# EAGLE library part SEAM-40-03.0-S-06-2-A-K-TR (library scono)
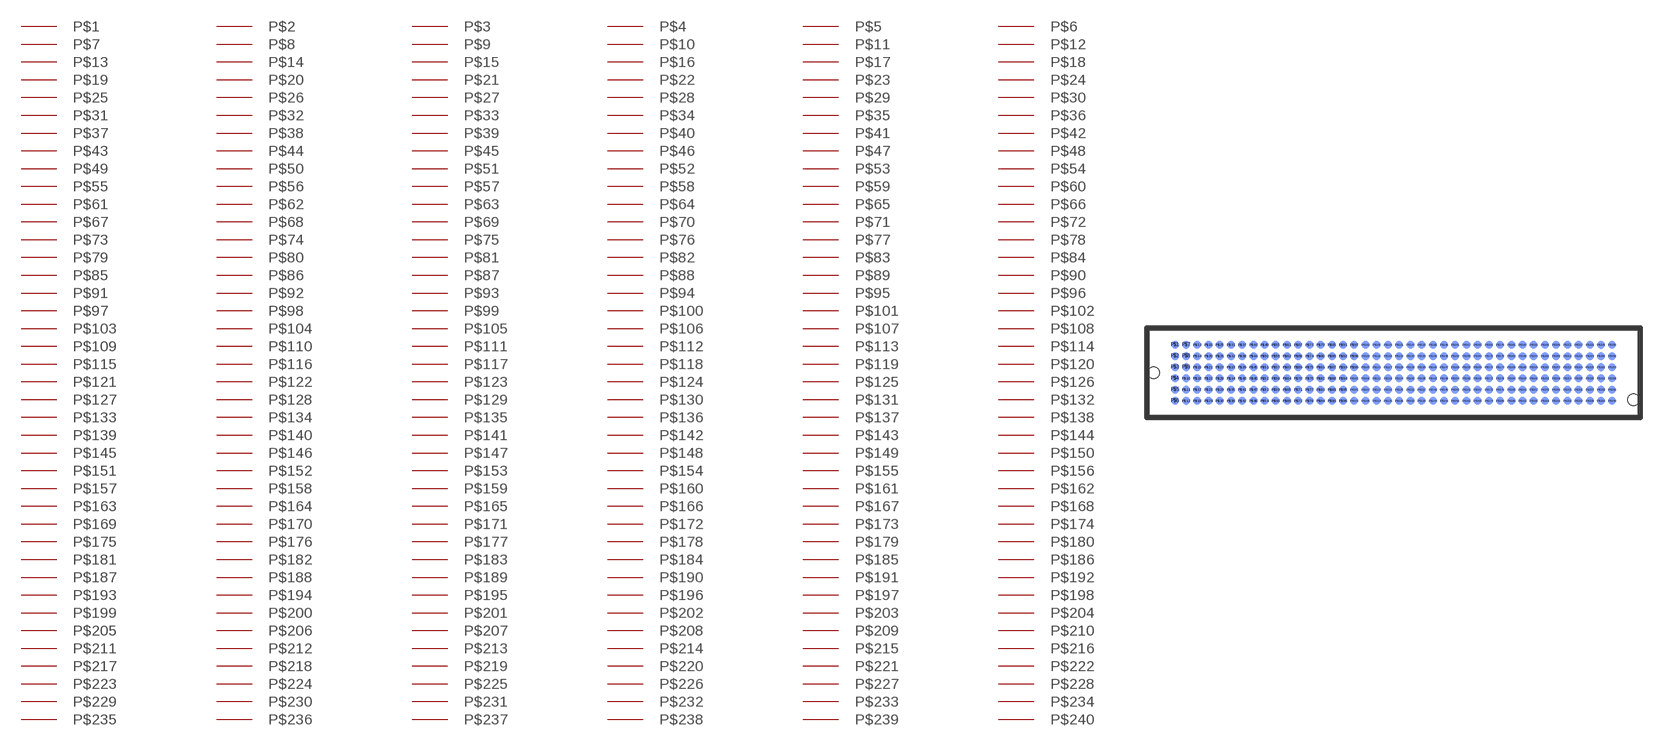
[diagram p1: symbol with the pads of SEAM-40-03.0-S-06-2-A-K-TR; footprint SEAM-40-03.0-S-06-2-A-K-TR]

Designator prefix -

## SEAM-40-03.0-S-06-2-A-K-TR  [SEAM-40-03.0-S-06-2-A-K-TR]
P$1  P$1
P$2  P$2
P$3  P$3
P$4  P$4
P$5  P$5
P$6  P$6
P$7  P$7
P$8  P$8
P$9  P$9
P$10  P$10
P$11  P$11
P$12  P$12
P$13  P$13
P$14  P$14
P$15  P$15
P$16  P$16
P$17  P$17
P$18  P$18
P$19  P$19
P$20  P$20
P$21  P$21
P$22  P$22
P$23  P$23
P$24  P$24
P$25  P$25
P$26  P$26
P$27  P$27
P$28  P$28
P$29  P$29
P$30  P$30
P$31  P$31
P$32  P$32
P$33  P$33
P$34  P$34
P$35  P$35
P$36  P$36
P$37  P$37
P$38  P$38
P$39  P$39
P$40  P$40
P$41  P$41
P$42  P$42
P$43  P$43
P$44  P$44
P$45  P$45
P$46  P$46
P$47  P$47
P$48  P$48
P$49  P$49
P$50  P$50
P$51  P$51
P$52  P$52
P$53  P$53
P$54  P$54
P$55  P$55
P$56  P$56
P$57  P$57
P$58  P$58
P$59  P$59
P$60  P$60
P$61  P$61
P$62  P$62
P$63  P$63
P$64  P$64
P$65  P$65
P$66  P$66
P$67  P$67
P$68  P$68
P$69  P$69
P$70  P$70
P$71  P$71
P$72  P$72
P$73  P$73
P$74  P$74
P$75  P$75
P$76  P$76
P$77  P$77
P$78  P$78
P$79  P$79
P$80  P$80
P$81  P$81
P$82  P$82
P$83  P$83
P$84  P$84
P$85  P$85
P$86  P$86
P$87  P$87
P$88  P$88
P$89  P$89
P$90  P$90
P$91  P$91
P$92  P$92
P$93  P$93
P$94  P$94
P$95  P$95
P$96  P$96
P$97  P$97
P$98  P$98
P$99  P$99
P$100  P$100
P$101  P$101
P$102  P$102
P$103  P$103
P$104  P$104
P$105  P$105
P$106  P$106
P$107  P$107
P$108  P$108
P$109  P$109
P$110  P$110
P$111  P$111
P$112  P$112
P$113  P$113
P$114  P$114
P$115  P$115
P$116  P$116
P$117  P$117
P$118  P$118
P$119  P$119
P$120  P$120
P$121  P$121
P$122  P$122
P$123  P$123
P$124  P$124
P$125  P$125
P$126  P$126
P$127  P$127
P$128  P$128
P$129  P$129
P$130  P$130
P$131  P$131
P$132  P$132
P$133  P$133
P$134  P$134
P$135  P$135
P$136  P$136
P$137  P$137
P$138  P$138
P$139  P$139
P$140  P$140
P$141  P$141
P$142  P$142
P$143  P$143
P$144  P$144
P$145  P$145
P$146  P$146
P$147  P$147
P$148  P$148
P$149  P$149
P$150  P$150
P$151  P$151
P$152  P$152
P$153  P$153
P$154  P$154
P$155  P$155
P$156  P$156
P$157  P$157
P$158  P$158
P$159  P$159
P$160  P$160
P$161  P$161
P$162  P$162
P$163  P$163
P$164  P$164
P$165  P$165
P$166  P$166
P$167  P$167
P$168  P$168
P$169  P$169
P$170  P$170
P$171  P$171
P$172  P$172
P$173  P$173
P$174  P$174
P$175  P$175
P$176  P$176
P$177  P$177
P$178  P$178
P$179  P$179
P$180  P$180
P$181  P$181
P$182  P$182
P$183  P$183
P$184  P$184
P$185  P$185
P$186  P$186
P$187  P$187
P$188  P$188
P$189  P$189
P$190  P$190
P$191  P$191
P$192  P$192
P$193  P$193
P$194  P$194
P$195  P$195
P$196  P$196
P$197  P$197
P$198  P$198
P$199  P$199
P$200  P$200
P$201  P$201
P$202  P$202
P$203  P$203
P$204  P$204
P$205  P$205
P$206  P$206
P$207  P$207
P$208  P$208
P$209  P$209
P$210  P$210
P$211  P$211
P$212  P$212
P$213  P$213
P$214  P$214
P$215  P$215
P$216  P$216
P$217  P$217
P$218  P$218
P$219  P$219
P$220  P$220
P$221  P$221
P$222  P$222
P$223  P$223
P$224  P$224
P$225  P$225
P$226  P$226
P$227  P$227
P$228  P$228
P$229  P$229
P$230  P$230
P$231  P$231
P$232  P$232
P$233  P$233
P$234  P$234
P$235  P$235
P$236  P$236
P$237  P$237
P$238  P$238
P$239  P$239
P$240  P$240

## Footprint SEAM-40-03.0-S-06-2-A-K-TR (pad centres in mm)
smd 0.889 x 0.889 bottom: P$1 -24.765,3.175; P$2 -24.765,1.905; P$3 -24.765,0.635; P$4 -24.765,-0.635; P$5 -24.765,-1.905; P$6 -24.765,-3.175; P$7 -23.495,3.175; P$8 -23.495,1.905; P$9 -23.495,0.635; P$10 -23.495,-0.635; P$11 -23.495,-1.905; P$12 -23.495,-3.175; P$13 -22.225,3.175; P$14 -22.225,1.905; P$15 -22.225,0.635; P$16 -22.225,-0.635; P$17 -22.225,-1.905; P$18 -22.225,-3.175; P$19 -20.955,3.175; P$20 -20.955,1.905; P$21 -20.955,0.635; P$22 -20.955,-0.635; P$23 -20.955,-1.905; P$24 -20.955,-3.175; P$25 -19.685,3.175; P$26 -19.685,1.905; P$27 -19.685,0.635; P$28 -19.685,-0.635; P$29 -19.685,-1.905; P$30 -19.685,-3.175; P$31 -18.415,3.175; P$32 -18.415,1.905; P$33 -18.415,0.635; P$34 -18.415,-0.635; P$35 -18.415,-1.905; P$36 -18.415,-3.175; P$37 -17.145,3.175; P$38 -17.145,1.905; P$39 -17.145,0.635; P$40 -17.145,-0.635; P$41 -17.145,-1.905; P$42 -17.145,-3.175; P$43 -15.875,3.175; P$44 -15.875,1.905; P$45 -15.875,0.635; P$46 -15.875,-0.635; P$47 -15.875,-1.905; P$48 -15.875,-3.175; P$49 -14.605,3.175; P$50 -14.605,1.905; P$51 -14.605,0.635; P$52 -14.605,-0.635; P$53 -14.605,-1.905; P$54 -14.605,-3.175; P$55 -13.335,3.175; P$56 -13.335,1.905; P$57 -13.335,0.635; P$58 -13.335,-0.635; P$59 -13.335,-1.905; P$60 -13.335,-3.175; P$61 -12.065,3.175; P$62 -12.065,1.905; P$63 -12.065,0.635; P$64 -12.065,-0.635; P$65 -12.065,-1.905; P$66 -12.065,-3.175; P$67 -10.795,3.175; P$68 -10.795,1.905; P$69 -10.795,0.635; P$70 -10.795,-0.635; P$71 -10.795,-1.905; P$72 -10.795,-3.175; P$73 -9.525,3.175; P$74 -9.525,1.905; P$75 -9.525,0.635; P$76 -9.525,-0.635; P$77 -9.525,-1.905; P$78 -9.525,-3.175; P$79 -8.255,3.175; P$80 -8.255,1.905; P$81 -8.255,0.635; P$82 -8.255,-0.635; P$83 -8.255,-1.905; P$84 -8.255,-3.175; P$85 -6.985,3.175; P$86 -6.985,1.905; P$87 -6.985,0.635; P$88 -6.985,-0.635; P$89 -6.985,-1.905; P$90 -6.985,-3.175; P$91 -5.715,3.175; P$92 -5.715,1.905; P$93 -5.715,0.635; P$94 -5.715,-0.635; P$95 -5.715,-1.905; P$96 -5.715,-3.175; P$97 -4.445,3.175; P$98 -4.445,1.905; P$99 -4.445,0.635; P$100 -4.445,-0.635; P$101 -4.445,-1.905; P$102 -4.445,-3.175; P$103 -3.175,3.175; P$104 -3.175,1.905; P$105 -3.175,0.635; P$106 -3.175,-0.635; P$107 -3.175,-1.905; P$108 -3.175,-3.175; P$109 -1.905,3.175; P$110 -1.905,1.905; P$111 -1.905,0.635; P$112 -1.905,-0.635; P$113 -1.905,-1.905; P$114 -1.905,-3.175; P$115 -0.635,3.175; P$116 -0.635,1.905; P$117 -0.635,0.635; P$118 -0.635,-0.635; P$119 -0.635,-1.905; P$120 -0.635,-3.175; P$121 0.635,3.175; P$122 0.635,1.905; P$123 0.635,0.635; P$124 0.635,-0.635; P$125 0.635,-1.905; P$126 0.635,-3.175; P$127 1.905,3.175; P$128 1.905,1.905; P$129 1.905,0.635; P$130 1.905,-0.635; P$131 1.905,-1.905; P$132 1.905,-3.175; P$133 3.175,3.175; P$134 3.175,1.905; P$135 3.175,0.635; P$136 3.175,-0.635; P$137 3.175,-1.905; P$138 3.175,-3.175; P$139 4.445,3.175; P$140 4.445,1.905; P$141 4.445,0.635; P$142 4.445,-0.635; P$143 4.445,-1.905; P$144 4.445,-3.175; P$145 5.715,3.175; P$146 5.715,1.905; P$147 5.715,0.635; P$148 5.715,-0.635; P$149 5.715,-1.905; P$150 5.715,-3.175; P$151 6.985,3.175; P$152 6.985,1.905; P$153 6.985,0.635; P$154 6.985,-0.635; P$155 6.985,-1.905; P$156 6.985,-3.175; P$157 8.255,3.175; P$158 8.255,1.905; P$159 8.255,0.635; P$160 8.255,-0.635; P$161 8.255,-1.905; P$162 8.255,-3.175; P$163 9.525,3.175; P$164 9.525,1.905; P$165 9.525,0.635; P$166 9.525,-0.635; P$167 9.525,-1.905; P$168 9.525,-3.175; P$169 10.795,3.175; P$170 10.795,1.905; P$171 10.795,0.635; P$172 10.795,-0.635; P$173 10.795,-1.905; P$174 10.795,-3.175; P$175 12.065,3.175; P$176 12.065,1.905; P$177 12.065,0.635; P$178 12.065,-0.635; P$179 12.065,-1.905; P$180 12.065,-3.175; P$181 13.335,3.175; P$182 13.335,1.905; P$183 13.335,0.635; P$184 13.335,-0.635; P$185 13.335,-1.905; P$186 13.335,-3.175; P$187 14.605,3.175; P$188 14.605,1.905; P$189 14.605,0.635; P$190 14.605,-0.635; P$191 14.605,-1.905; P$192 14.605,-3.175; P$193 15.875,3.175; P$194 15.875,1.905; P$195 15.875,0.635; P$196 15.875,-0.635; P$197 15.875,-1.905; P$198 15.875,-3.175; P$199 17.145,3.175; P$200 17.145,1.905; P$201 17.145,0.635; P$202 17.145,-0.635; P$203 17.145,-1.905; P$204 17.145,-3.175; P$205 18.415,3.175; P$206 18.415,1.905; P$207 18.415,0.635; P$208 18.415,-0.635; P$209 18.415,-1.905; P$210 18.415,-3.175; P$211 19.685,3.175; P$212 19.685,1.905; P$213 19.685,0.635; P$214 19.685,-0.635; P$215 19.685,-1.905; P$216 19.685,-3.175; P$217 20.955,3.175; P$218 20.955,1.905; P$219 20.955,0.635; P$220 20.955,-0.635; P$221 20.955,-1.905; P$222 20.955,-3.175; P$223 22.225,3.175; P$224 22.225,1.905; P$225 22.225,0.635; P$226 22.225,-0.635; P$227 22.225,-1.905; P$228 22.225,-3.175; P$229 23.495,3.175; P$230 23.495,1.905; P$231 23.495,0.635; P$232 23.495,-0.635; P$233 23.495,-1.905; P$234 23.495,-3.175; P$235 24.765,3.175; P$236 24.765,1.905; P$237 24.765,0.635; P$238 24.765,-0.635; P$239 24.765,-1.905; P$240 24.765,-3.175
hole 1.3 at -27.178,0
hole 1.3 at 27.178,-3.048